# Altium schematic symbol library PowerMain_Ver0.1.SCHLIB: 34 symbols
Pins are listed as number, name and electrical type; pins without a type are passive.

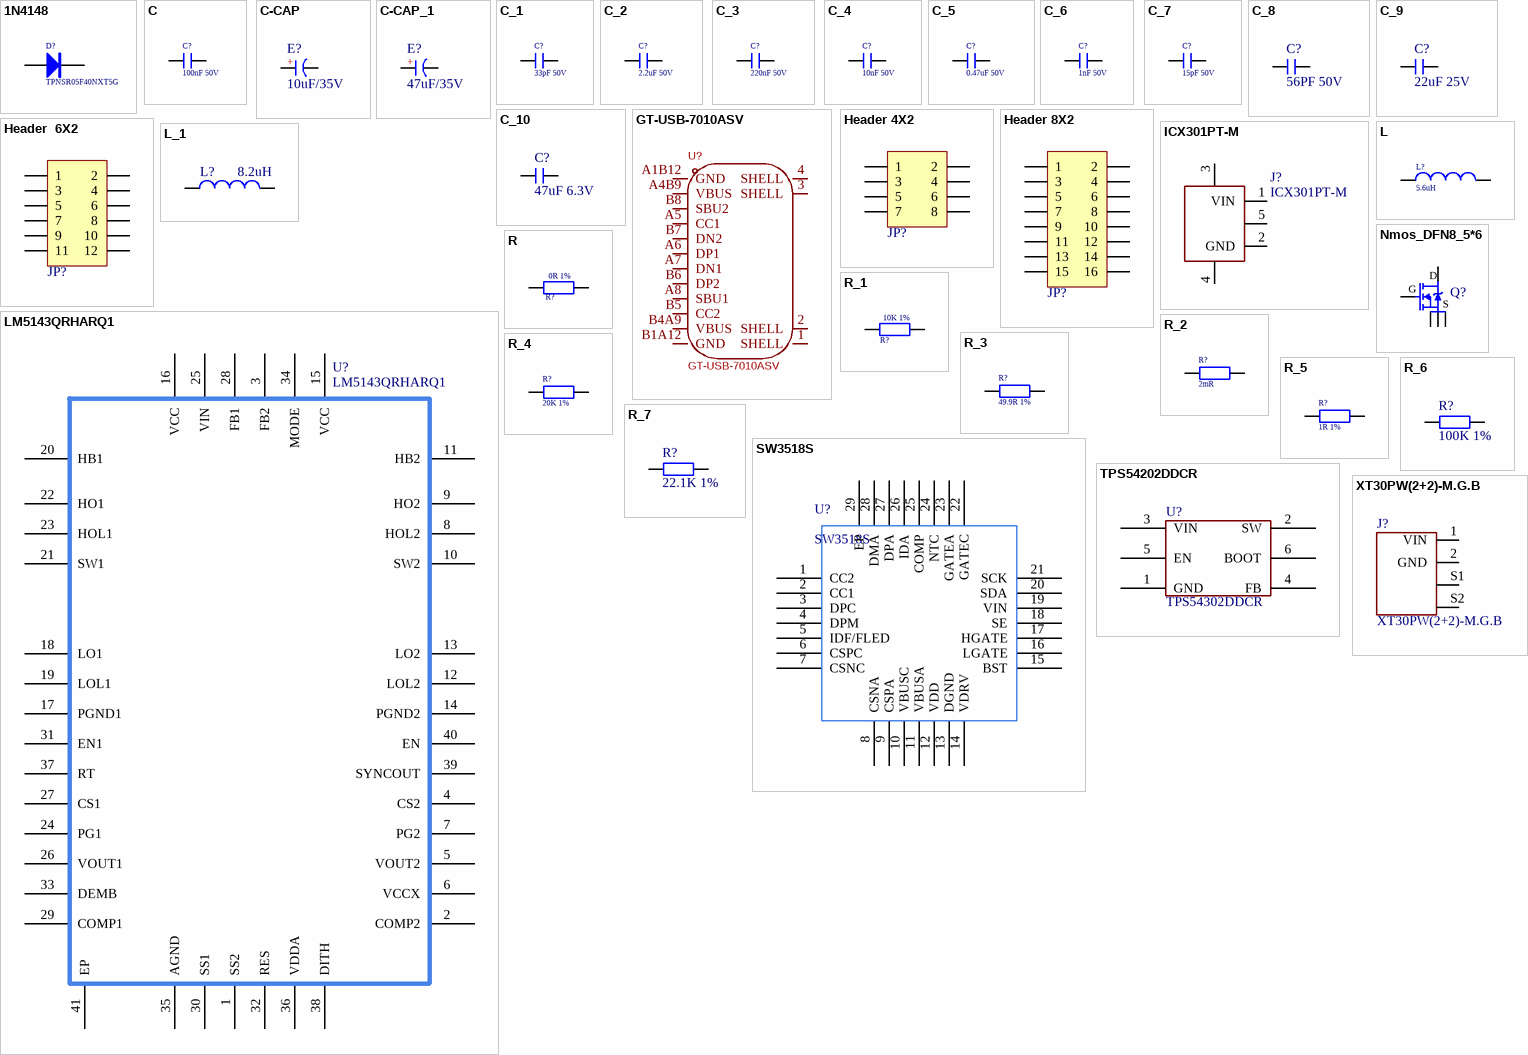
[diagram p0: symbols 1N4148 to XT30PW(2+2)-M.G.B]

## 1N4148
designator D?, comment TPNSR05F40NXT5G
高速开关二极管; 版权归属: 源创客; BOM名称: 高速开关二极管; 学习资源: www.ooocke.com
footprint R0402_l (1/16W贴片电阻)
pins: 1 A, 2 K

## C
designator C?, comment 100nF 50V
无极性贴片电容; 版权归属: 源创客; 材质: X7R; BOM名称: 无极性贴片电容; 学习资源: www.ooocke.com
footprint C 0402_L (无极性贴片电容)
pins: 1, 2

## C-CAP
designator E?, comment 10uF/35V
直插电解电容; 版权归属: 源创客; BOM名称: 直插电解电容; 学习资源: www.ooocke.com
footprint CT 6*6 - V (直径6mm，高6mm)
footprint CAP 1.5*4*8 - BK (脚距1.5mm直径4mm高度8mm)
footprint CAP 1.5*4*8 - GD (脚距1.5mm直径4mm高度8mm)
footprint CAP 1.5*4*8-H (脚距1.5mm直径4mm高度8mm)
footprint CAP 1.5*4*8-H - BK (脚距1.5mm直径4mm高度8mm)
footprint CAP 1.5*4*8-H - GD (脚距1.5mm直径4mm高度8mm)
footprint CAP 2.0*5*11 (脚距2mm直径5mm高度11mm)
footprint CAP 2.0*5*11 - BK (脚距2mm直径5mm高度11mm)
footprint CAP 2.0*5*11 - GD (脚距2mm直径5mm高度11mm)
footprint CAP 2.0*5*11-H (脚距2mm直径5mm高度11mm)
footprint CAP 2.0*5*11-H - BK (脚距2mm直径5mm高度11mm)
footprint CAP 2.0*5*11-H - GD (脚距2mm直径5mm高度11mm)
footprint CAP 2.5*5*11 (脚距2.5mm直径5mm高度11mm)
footprint CAP 2.5*5*11 - BK (脚距2.5mm直径5mm高度11mm)
footprint CAP 2.5*5*11 - GD (脚距2.5mm直径5mm高度11mm)
footprint CAP 2.5*5*11-H (脚距2.5mm直径5mm高度11mm)
footprint CAP 2.5*5*11-H - BK (脚距2.5mm直径5mm高度11mm)
footprint CAP 2.5*5*11-H - GD (脚距2.5mm直径5mm高度11mm)
footprint CAP 2.5*6.3*7 (脚距2.5mm直径6.3mm高度7mm)
footprint CAP 2.5*6.3*7 - BK (脚距2.5mm直径6.3mm高度7mm)
footprint CAP 2.5*6.3*7 - GD (脚距2.5mm直径6.3mm高度7mm)
footprint CAP 2.5*6.3*7-H (脚距2.5mm直径6.3mm高度7mm)
footprint CAP 2.5*6.3*7-H - BK (脚距2.5mm直径6.3mm高度7mm)
footprint CAP 2.5*6.3*7-H - GD (脚距2.5mm直径6.3mm高度7mm)
footprint CAP 2.5*6.3*11.2 (脚距2.5mm直径6.3mm高度11.2mm)
footprint CAP 2.5*6.3*11.2 - BK (脚距2.5mm直径6.3mm高度11.2mm)
footprint CAP 2.5*6.3*11.2 - GD (脚距2.5mm直径6.3mm高度11.2mm)
footprint CAP 2.5*6.3*11.2-H (脚距2.5mm直径6.3mm高度11.2mm)
footprint CAP 2.5*6.3*11.2-H - BK (脚距2.5mm直径6.3mm高度11.2mm)
footprint CAP 2.5*6.3*11.2-H - GD (脚距2.5mm直径6.3mm高度11.2mm)
footprint CAP 3.5*8*11.5 (脚距3.5mm直径8mm高度11.5mm)
footprint CAP 3.5*8*11.5 - BK (脚距3.5mm直径8mm高度11.5mm)
footprint CAP 3.5*8*11.5 - GD (脚距3.5mm直径8mm高度11.5mm)
footprint CAP 3.5*8*11.5-H (脚距3.5mm直径8mm高度11.5mm)
footprint CAP 3.5*8*11.5-H - BK (脚距3.5mm直径8mm高度11.5mm)
footprint CAP 3.5*8*11.5-H - GD (脚距3.5mm直径8mm高度11.5mm)
footprint CAP 5.0*10*12.5 (脚距5mm直径10mm高度12.5mm)
footprint CAP 5.0*10*12.5 - BK (脚距5mm直径10mm高度12.5mm)
footprint CAP 5.0*10*12.5 - GD (脚距5mm直径10mm高度12.5mm)
footprint CAP 5.0*10*12.5-H (脚距5mm直径10mm高度12.5mm)
footprint CAP 5.0*10*12.5-H - BK (脚距5mm直径10mm高度12.5mm)
footprint CAP 5.0*10*12.5-H - GD (脚距5mm直径10mm高度12.5mm)
footprint CAP 5.0*10*16 (脚距5mm直径10mm高度16mm)
footprint CAP 5.0*10*16 - BK (脚距5mm直径10mm高度16mm)
footprint CAP 5.0*10*16 - GD (脚距5mm直径10mm高度16mm)
footprint CAP 5.0*10*16-H (脚距5mm直径10mm高度16mm)
footprint CAP 5.0*10*16-H - BK (脚距5mm直径10mm高度16mm)
footprint CAP 5.0*10*16-H - GD (脚距5mm直径10mm高度16mm)
footprint CAP 5.0*10*20 (脚距5mm直径10mm高度20mm)
footprint CAP 5.0*10*20 - BK (脚距5mm直径10mm高度20mm)
footprint CAP 5.0*10*20 - GD (脚距5mm直径10mm高度20mm)
footprint CAP 5.0*10*20-H (脚距5mm直径10mm高度20mm)
footprint CAP 5.0*10*20-H - BK (脚距5mm直径10mm高度20mm)
footprint CAP 5.0*10*20-H - GD (脚距5mm直径10mm高度20mm)
footprint CAP 5.0*12.5*20 (脚距5mm直径12.5mm高度20mm)
footprint CAP 5.0*12.5*20 - BK (脚距5mm直径12.5mm高度20mm)
footprint CAP 5.0*12.5*20 - GD (脚距5mm直径12.5mm高度20mm)
footprint CAP 5.0*12.5*20-H (脚距5mm直径12.5mm高度20mm)
footprint CAP 5.0*12.5*20-H - BK (脚距5mm直径12.5mm高度20mm)
footprint CAP 5.0*12.5*20-H - GD (脚距5mm直径12.5mm高度20mm)
footprint CAP 5.0*12.5*25 (脚距5mm直径12.5mm高度25mm)
footprint CAP 5.0*12.5*25 - BK (脚距5mm直径12.5mm高度25mm)
footprint CAP 5.0*12.5*25 - GD (脚距5mm直径12.5mm高度25mm)
footprint CAP 5.0*12.5*25-H (脚距5mm直径12.5mm高度25mm)
footprint CAP 5.0*12.5*25-H - BK (脚距5mm直径12.5mm高度25mm)
footprint CAP 5.0*12.5*25-H - GD (脚距5mm直径12.5mm高度25mm)
footprint CAP 7.5*16*25 (脚距7.5mm直径16mm高度25mm)
footprint CAP 7.5*16*25 - BK (脚距7.5mm直径16mm高度25mm)
footprint CAP 7.5*16*25 - GD (脚距7.5mm直径16mm高度25mm)
footprint CAP 7.5*16*25-H (脚距7.5mm直径16mm高度25mm)
footprint CAP 7.5*16*25-H - BK (脚距7.5mm直径16mm高度25mm)
footprint CAP 7.5*16*25-H - GD (脚距7.5mm直径16mm高度25mm)
footprint CAP 7.5*16*31.5 (脚距7.5mm直径16mm高度31.5mm)
footprint CAP 7.5*16*31.5 - BK (脚距7.5mm直径16mm高度31.5mm)
footprint CAP 7.5*16*31.5 - GD (脚距7.5mm直径16mm高度31.5mm)
footprint CAP 7.5*16*31.5-H (脚距7.5mm直径16mm高度31.5mm)
footprint CAP 7.5*16*31.5-H - BK (脚距7.5mm直径16mm高度31.5mm)
footprint CAP 7.5*16*31.5-H - GD (脚距7.5mm直径16mm高度31.5mm)
footprint CAP 7.5*18*35.5 (脚距7.5mm直径18mm高度35.5mm)
footprint CAP 7.5*18*35.5 - BK (脚距7.5mm直径18mm高度35.5mm)
footprint CAP 7.5*18*35.5 - GD (脚距7.5mm直径18mm高度35.5mm)
footprint CAP 7.5*18*35.5-H (脚距7.5mm直径18mm高度35.5mm)
footprint CAP 7.5*18*35.5-H - BK (脚距7.5mm直径18mm高度35.5mm)
footprint CAP 7.5*18*35.5-H - GD (脚距7.5mm直径18mm高度35.5mm)
footprint CAP 10*22*31.5 (脚距10mm直径22mm高度31.5mm)
footprint CAP 10*22*31.5 - BK (脚距10mm直径22mm高度31.5mm)
footprint CAP 10*22*31.5 - GD (脚距10mm直径22mm高度31.5mm)
footprint CAP 10*22*40 (脚距10mm直径22mm高度40mm)
footprint CAP 10*22*40 - BK (脚距10mm直径22mm高度40mm)
footprint CAP 10*22*40 - GD (脚距10mm直径22mm高度40mm)
footprint CAP 2.0*5*7-H (脚距2mm直径5mm高度7mm)
footprint CAP 2.0*5*7 (脚距2mm直径5mm高度7mm)
footprint CAP 2.0*5*7-H - BK (脚距2mm直径5mm高度7mm)
footprint CAP 2.0*5*7 - BK (脚距2mm直径5mm高度7mm)
footprint CAP 2.0*5*7-H - GD (脚距2mm直径5mm高度7mm)
footprint CAP 2.0*5*7 - GD (脚距2mm直径5mm高度7mm)
pins: 1 A, 2 K
text: +

## C-CAP_1
designator E?, comment 47uF/35V
直插电解电容; 版权归属: 源创客; BOM名称: 直插电解电容; 学习资源: www.ooocke.com
footprint CT 6*6 - V (直径6mm，高6mm)
pins: 1 A, 2 K
text: +

## C_1
designator C?, comment 33pF 50V
无极性贴片电容; 版权归属: 源创客; 材质: X7R; BOM名称: 无极性贴片电容; 学习资源: www.ooocke.com
footprint C0402_l (贴片MLCC电容)
pins: 1, 2

## C_2
designator C?, comment 2.2uF 50V
无极性贴片电容; 版权归属: 源创客; 材质: X7R; BOM名称: 无极性贴片电容; 学习资源: www.ooocke.com
footprint C0402_l (贴片MLCC电容)
pins: 1, 2

## C_3
designator C?, comment 220nF 50V
无极性贴片电容; 版权归属: 源创客; 材质: X7R; BOM名称: 无极性贴片电容; 学习资源: www.ooocke.com
footprint C0402_l (贴片MLCC电容)
pins: 1, 2

## C_4
designator C?, comment 10nF 50V
无极性贴片电容; 版权归属: 源创客; 材质: X7R; BOM名称: 无极性贴片电容; 学习资源: www.ooocke.com
footprint C0402_l (贴片MLCC电容)
pins: 1, 2

## C_5
designator C?, comment 0.47uF 50V
无极性贴片电容; 版权归属: 源创客; 材质: X7R; BOM名称: 无极性贴片电容; 学习资源: www.ooocke.com
footprint C0402_l (贴片MLCC电容)
pins: 1, 2

## C_6
designator C?, comment 1nF 50V
无极性贴片电容; 版权归属: 源创客; 材质: X7R; BOM名称: 无极性贴片电容; 学习资源: www.ooocke.com
footprint C 0402_L (无极性贴片电容)
pins: 1, 2

## C_7
designator C?, comment 15pF 50V
无极性贴片电容; 版权归属: 源创客; 材质: X7R; BOM名称: 无极性贴片电容; 学习资源: www.ooocke.com
footprint C 0402_L (无极性贴片电容)
pins: 1, 2

## C_8
designator C?, comment 56PF 50V
无极性贴片电容; 版权归属: 源创客; 材质: X7R; BOM名称: 无极性贴片电容; 学习资源: www.ooocke.com
footprint C0402_L (贴片MLCC电容)
pins: 1, 2

## C_9
designator C?, comment 22uF 25V
无极性贴片电容; 版权归属: 源创客; 材质: X7R; BOM名称: 无极性贴片电容; 学习资源: www.ooocke.com
footprint C0805_L (贴片MLCC电容)
pins: 1, 2

## C_10
designator C?, comment 47uF 6.3V
无极性贴片电容; 版权归属: 源创客; 材质: X7R; BOM名称: 无极性贴片电容; 学习资源: www.ooocke.com
footprint C0805_L (贴片MLCC电容)
pins: 1, 2

## GT-USB-7010ASV
designator U?
连接器类型:Type-C;标准:USB 2.0;公母:母;安装方式:卧贴;触点数量:16P;端口数量:1;额定电流 - 电源:3A;工作温度范围:-40℃~+85℃;; Manufacturer: G-Switch(品赞); AddInBom: yes; ModelId: f185ae662725428a9073ef0181ffed89聨0819f05c4eef4c71ace90d822a990e87; ModelName: USB-C-SMD_G-SWITCH_GT-USB-7010ASV; ModelTransform: 351.9678,311.023,0,0,0,0,0,-41.339,-59.055; Connector Type: Type-C; Gender: 母; Number of Contacts: 16P; Number of Ports: 1; Current Rating - Power (Max): 3A; Rated Voltage (Max): 24V; Connect-Disconnect Life: 1万次; Center Height: 1.68mm; Core Colour: 黑色; Symbol: GT-USB-7010ASV; Device: GT-USB-7010ASV; LCSC Part Name: Type-C 母 卧贴; SupplierPart: C2988369; ManufacturerPart: GT-USB-7010ASV; Supplier Footprint: SMD; JLCPCB Part Class: Extended Part; Datasheet: https://atta.szlcsc.com/upload/public/pdf/source/20230327/DF227B64686AC8FA0AD1775797F2C3F1.pdf; Supplier: LCSC; ConvertToPcb: yes; FootprintName: USB-C-SMD_G-SWITCH_GT-USB-7010ASV; Standard: USB 2.0; Mounting Style: 卧贴; Length: 7.35mm; Operating Temperature Range: -40℃~+85℃
footprint USB-C-SMD_G-SWITCH_GT-USB-7010ASV
pins: 1 SHELL, 2 SHELL, 3 SHELL, 4 SHELL, A1B12 GND, A4B9 VBUS, A5 CC1, A6 DP1, A7 DN1, A8 SBU1, B1A12 GND, B4A9 VBUS, B5 CC2, B6 DP2, B7 DN2, B8 SBU2

## Header 4X2
designator JP?  (value not drawn)
4*2P接插件; 版权归属: 源创客; BOM名称: 4*2P接插件; 学习资源: www.ooocke.com
footprint 4.2mm 8Pin 贴片焊盘
pins: 1, 2, 3, 4, 5, 6, 7, 8

## Header 8X2
designator JP?  (value not drawn)
8*2P接插件; 版权归属: 源创客; BOM名称: 8*2P接插件; 学习资源: www.ooocke.com
footprint HDR2.54-M-LS-2x8P (脚距：2.54mm，贴片双排母)
footprint HDR2.54-LI-2x8P (双排排针，8x2脚)
footprint HDR2.54-M-LS-2x8P (脚距：2.54mm，贴片双排母)
footprint HDR2.54-WI-2x8P (双排弯脚排针，8x2脚)
pins: 1, 2, 3, 4, 5, 6, 7, 8, 9, 10, 11, 12, 13, 14, 15, 16

## Header  6X2
designator JP?, comment Header 6X2  (value not drawn)
6*2P接插件; 版权归属: 源创客; BOM名称: 6*2P接插件; 学习资源: www.ooocke.com
footprint AMPHENOL_10164279-124121LF
pins: 1, 2, 3, 4, 5, 6, 7, 8, 9, 10, 11, 12

## ICX301PT-M
designator J?
footprint CONN-SMD_ICX301PT-M
pins: 1 VIN, 2 GND, 3, 4, 5

## L
designator L?, comment 5.6uH
小功率贴片电感; 版权归属: 源创客; BOM名称: 小功率贴片电感; 学习资源: www.ooocke.com
footprint ECI-IN-OP002 Indoctor (大电流扁线电感)
pins: 1, 2

## L_1
designator L?, comment 8.2uH
小功率贴片电感; 版权归属: 源创客; BOM名称: 小功率贴片电感; 学习资源: www.ooocke.com
footprint L0630贴片电感
pins: 1, 2

## LM5143QRHARQ1
designator U?
DCDC-Buck控制器
footprint QFN40 6X6_M (40脚，长x宽x高：6x6x1mm，脚距：0.5mm)
pins: 1 SS2, 2 COMP2, 3 FB2, 4 CS2, 5 VOUT2, 6 VCCX, 7 PG2, 8 HOL2, 9 HO2, 10 SW2, 11 HB2, 12 LOL2, 13 LO2, 14 PGND2, 15 VCC, 16 VCC, 17 PGND1, 18 LO1, 19 LOL1, 20 HB1, 21 SW1, 22 HO1, 23 HOL1, 24 PG1, 25 VIN, 26 VOUT1, 27 CS1, 28 FB1, 29 COMP1, 30 SS1, 31 EN1, 32 RES, 33 DEMB, 34 MODE, 35 AGND, 36 VDDA, 37 RT, 38 DITH, 39 SYNCOUT, 40 EN, 41 EP

## Nmos_DFN8_5*6
designator Q?  (value not drawn)
BOM名称: 场效应管; 版权归属: 源创客; 描述: P沟道 30V/4.2A; 学习资源: www.ooocke.com
footprint DFN8_5*6 (TDSON, 8-Leads, Body 6.15x5.15mm, Pitch 1.27mm)
pins: 1 S, 2 S, 3 S, 4 G, 5 D

## R
designator R?, comment 0R 1%
贴片电阻; 版权归属: 源创客; BOM名称: 贴片电阻; 学习资源: www.ooocke.com
footprint R 0402_L (1/16W贴片电阻)
pins: 1, 2

## R_1
designator R?, comment 10K 1%
贴片电阻; 版权归属: 源创客; BOM名称: 贴片电阻; 学习资源: www.ooocke.com
footprint R 0402_L (1/16W贴片电阻)
pins: 1, 2

## R_2
designator R?, comment 2mR
贴片电阻; 版权归属: 源创客; BOM名称: 贴片电阻; 学习资源: www.ooocke.com
footprint R 2512_L (1W贴片电阻)
pins: 1, 2

## R_3
designator R?, comment 49.9R 1%
贴片电阻; 版权归属: 源创客; BOM名称: 贴片电阻; 学习资源: www.ooocke.com
footprint R 0402_L (1/16W贴片电阻)
pins: 1, 2

## R_4
designator R?, comment 20K 1%
贴片电阻; 版权归属: 源创客; BOM名称: 贴片电阻; 学习资源: www.ooocke.com
footprint R 0402_L (1/16W贴片电阻)
pins: 1, 2

## R_5
designator R?, comment 1R 1%
贴片电阻; 版权归属: 源创客; BOM名称: 贴片电阻; 学习资源: www.ooocke.com
footprint R 0402_L (1/16W贴片电阻)
pins: 1, 2

## R_6
designator R?, comment 100K 1%
贴片电阻; 版权归属: 源创客; BOM名称: 贴片电阻; 学习资源: www.ooocke.com
footprint R0402_L (1/16W贴片电阻)
pins: 1, 2

## R_7
designator R?, comment 22.1K 1%
贴片电阻; 版权归属: 源创客; BOM名称: 贴片电阻; 学习资源: www.ooocke.com
footprint R0402_L (1/16W贴片电阻)
pins: 1, 2

## SW3518S
designator U?
SW3518S PD快充控制器 降压型
pins: 1 CC2, 2 CC1, 3 DPC, 4 DPM, 5 IDF/FLED, 6 CSPC, 7 CSNC, 8 CSNA, 9 CSPA, 10 VBUSC, 11 VBUSA, 12 VDD, 13 DGND, 14 VDRV, 15 BST, 16 LGATE, 17 HGATE, 18 SE, 19 VIN, 20 SDA, 21 SCK, 22 GATEC, 23 GATEA, 24 NTC, 25 COMP, 26 IDA, 27 DPA, 28 DMA, 29 EP

## TPS54202DDCR
designator U?, comment TPS54302DDCR
DCDC Convert
footprint SOT23-6L (3x1.6x1.1mm(长宽高))
pins: 1 GND, 2 SW, 3 VIN, 4 FB, 5 EN, 6 BOOT

## XT30PW(2+2)-M.G.B
designator J?
footprint AMASS_XT30PW(2+2)-M.G.B
pins: 1 VIN, 2 GND, S1, S2